# Altium footprint library Blackpill.PcbLib: 1 footprints
Each footprint in its own frame and in the unit in brackets; x right, y up, seen from the top. Pads: shape width x height; smd on the part's side, far side on the other; paste and mask are expansions set on the pad; w line width, h text height; cw(c..) or ccw(c..) is an arc to the next point about the centre after c.
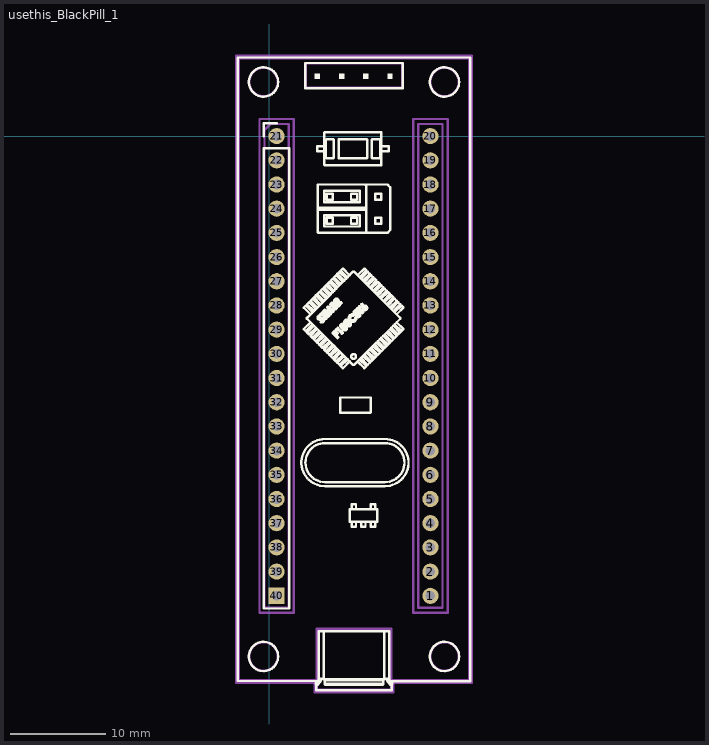
[diagram p0: the footprint, top view; thin cyan lines are the x and y axes]

## usethis_BlackPill_1 [mm]
pads (40):
  round 1.7 hole 1: 1(16.915,-48.26) 2(16.915,-45.72) 3(16.915,-43.18) 4(16.915,-40.64) 5(16.915,-38.1) 6(16.915,-35.56) 7(16.915,-33.02) 8(16.915,-30.48) 9(16.915,-27.94) 10(16.915,-25.4) 11(16.915,-22.86) 12(16.915,-20.32) 13(16.915,-17.78) 14(16.915,-15.24) 15(16.915,-12.7) 16(16.915,-10.16) 17(16.915,-7.62) 18(16.915,-5.08) 19(16.915,-2.54) 20(16.915,0) 21(0.759,0) 22(0.759,-2.54) 23(0.759,-5.08) 24(0.759,-7.62) 25(0.759,-10.16) 26(0.759,-12.7) 27(0.759,-15.24) 28(0.759,-17.78) 29(0.759,-20.32) 30(0.759,-22.86) 31(0.759,-25.4) 32(0.759,-27.94) 33(0.759,-30.48) 34(0.759,-33.02) 35(0.759,-35.56) 36(0.759,-38.1) 37(0.759,-40.64) 38(0.759,-43.18) 39(0.759,-45.72)
  rect 1.7x1.7 hole 1: 40(0.759,-48.26)
F.SilkS:
  drawing of 663 lines, arcs and shapes, not listed
B.SilkS:
  lines w0.254: 15.585,-49.59 15.585,1.33 18.245,1.33 18.245,-49.59 15.585,-49.59
F.CrtYd:
  lines w0.254: -3.46,8.382 -3.46,-57.379 4.74,-57.379 4.74,-58.379 13.04,-58.379 13.04,-57.379 21.24,-57.379 21.24,8.43 -3.46,8.43 ; -1.035,-50.06 -1.035,1.8 2.565,1.8 2.565,-50.06 -1.035,-50.06 ; 15.115,-50.06 15.115,1.8 18.715,1.8 18.715,-50.06 15.115,-50.06
F.Fab:
  circle w0.254: c-0.61,5.68 r1.5
  circle w0.254: c-0.61,-54.629 r1.5
  circle w0.254: c18.39,5.68 r1.5
  circle w0.254: c18.39,-54.629 r1.5
  lines w0.254: 4.99,-57.129 -3.21,-57.129 -3.21,8.18 20.99,8.18 20.99,-57.129 12.79,-57.129 ; 4.99,-57.129 4.99,-51.709 12.79,-51.709 12.79,-57.129 ; 4.99,-57.129 4.99,-58.129 12.79,-58.129 12.79,-57.129 ; -0.505,-49.53 -0.505,0.635 0.13,1.27 2.035,1.27 2.035,-49.53 -0.505,-49.53 ; 3.81,5.08 3.81,7.62 13.97,7.62 13.97,5.08 3.81,5.08 ; 15.645,-49.53 15.645,1.27 18.185,1.27 18.185,-49.53 15.645,-49.53
  text "REF**" at 9.17,-21.014 h1